# Altium footprint library Passives.PcbLib: 126 footprints (part 1 of 8)
Each footprint in its own frame and in the unit in brackets; x right, y up, seen from the top. Pads: shape width x height; smd on the part's side, far side on the other; paste and mask are expansions set on the pad; w line width, h text height; cw(c..) or ccw(c..) is an arc to the next point about the centre after c.
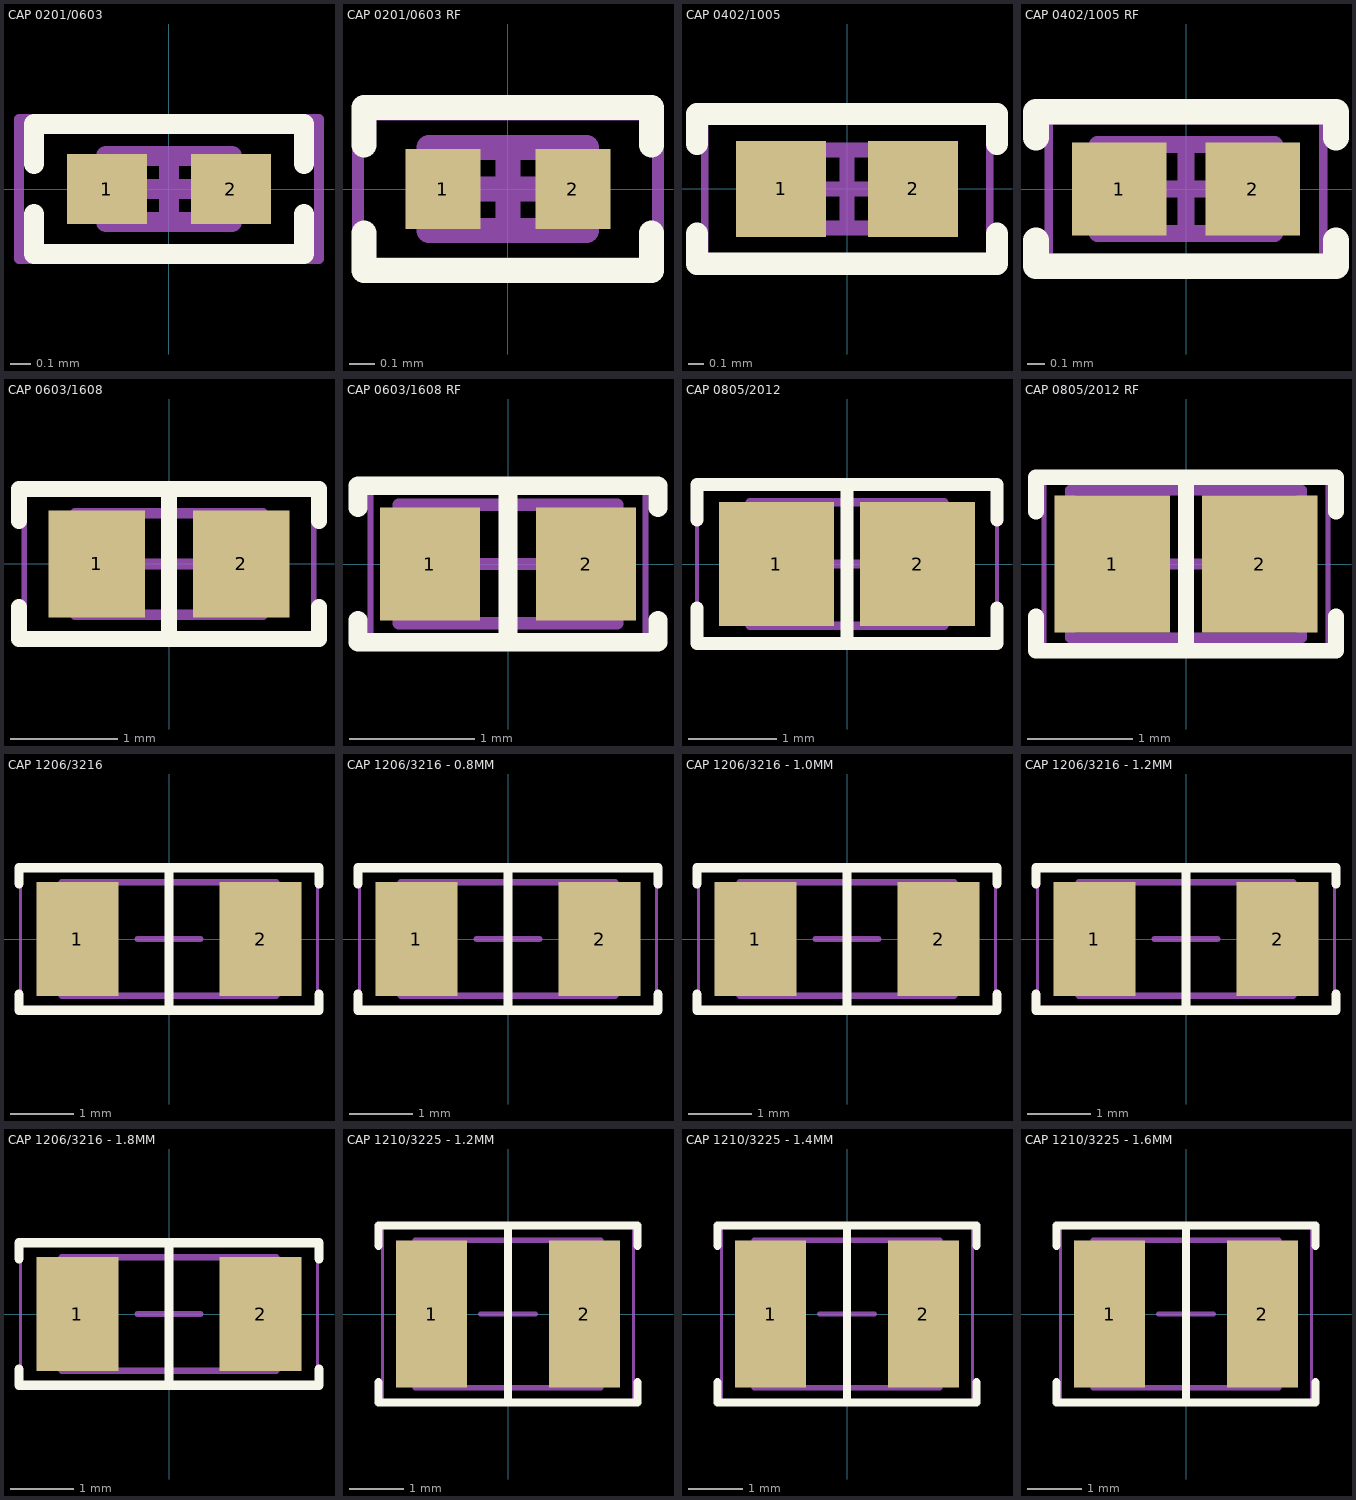
[diagram p0: the footprints below, top view; thin cyan lines are the x and y axes]

## CAP 0201/0603 [mm] "Chip Capacitor, 2-Leads, Body 0.60x0.30mm, IPC Medium Density"
height 0.33
pads (2):
  rect 0.4x0.35 smd: 1(-0.31,0) 2(0.31,0)
Top Overlay:
  lines w0.1: -0.675,-0.125 -0.675,-0.325 0.675,-0.325 0.675,-0.125 ; -0.675,0.125 -0.675,0.325 0.675,0.325 0.675,0.125
Top Component Center:
  lines w0.1: -0.165,0 0.165,0 ; 0,-0.165 0,0.165
Top Component Outline:
  lines w0.1: -0.315,-0.165 -0.315,0.165 0.315,0.165 0.315,-0.165 -0.315,-0.165
Top Courtyard:
  lines w0.05: -0.75,-0.35 0.75,-0.35 0.75,0.35 -0.75,0.35 -0.75,-0.35
3D body "CAP 0201.STEP": height 0.3, standoff 0, extent -0.3,-0.15 0.3,0.15

## CAP 0201/0603 RF [mm] "Chip Capacitor, 2-Leads, Body 0.60x0.30mm, IPC High Density"
height 0.33
pads (2):
  rect 0.3x0.32 smd: 1(-0.26,0) 2(0.26,0)
Top Overlay:
  lines w0.1: -0.575,-0.175 -0.575,-0.325 0.575,-0.325 0.575,-0.175 ; -0.575,0.175 -0.575,0.325 0.575,0.325 0.575,0.175
Top Component Center:
  lines w0.1: -0.165,0 0.165,0 ; 0,-0.165 0,0.165
Top Component Outline:
  lines w0.1: -0.315,-0.165 -0.315,0.165 0.315,0.165 0.315,-0.165 -0.315,-0.165
Top Courtyard:
  lines w0.05: -0.6,-0.3 -0.6,0.3 0.6,0.3 0.6,-0.3 -0.6,-0.3
3D body "CAP 0201.STEP": height 0.3, standoff 0, extent -0.3,-0.15 0.3,0.15

## CAP 0402/1005 [mm] "Chip Capacitor, 2-Leads, Body 1.02x0.51mm, IPC Medium Density"
height 0.52
pads (2):
  rect 0.6x0.64 smd: 1(-0.44,0) 2(0.44,0)
Top Overlay:
  lines w0.15: -1,-0.3 -1,-0.5 1,-0.5 1,-0.3 ; -1,0.3 -1,0.5 1,0.5 1,0.3
Top Component Center:
  lines w0.1: -0.26,0 0.26,0 ; 0,-0.26 0,0.26
Top Component Outline:
  lines w0.1: -0.515,-0.26 0.515,-0.26 0.515,0.26 -0.515,0.26 -0.515,-0.26
Top Courtyard:
  lines w0.05: -0.95,-0.5 0.95,-0.5 0.95,0.5 -0.95,0.5 -0.95,-0.5
3D body "0402 cap.STEP": height 0.52, standoff 0, extent -0.5,-0.262 0.5,0.262

## CAP 0402/1005 RF [mm] "Chip Capacitor, 2-Leads, Body 1.02x0.51mm, IPC High Density"
height 0.52
pads (2):
  rect 0.55x0.54 smd: 1(-0.39,0) 2(0.39,0)
Top Overlay:
  lines w0.15: -0.875,-0.3 -0.875,-0.45 0.875,-0.45 0.875,-0.3 ; -0.875,0.3 -0.875,0.45 0.875,0.45 0.875,0.3
Top Component Center:
  lines w0.1: -0.26,0 0.26,0 ; 0,-0.26 0,0.26
Top Component Outline:
  lines w0.1: -0.515,-0.26 -0.515,0.26 0.515,0.26 0.515,-0.26 -0.515,-0.26
Top Courtyard:
  lines w0.05: -0.8,-0.4 -0.8,0.4 0.8,0.4 0.8,-0.4 -0.8,-0.4
3D body "0402 cap.STEP": height 0.52, standoff 0, extent -0.5,-0.262 0.5,0.262

## CAP 0603/1608 [mm] "Chip Capacitor, 2-Leads, Body 1.60x0.80mm, IPC Medium Density"
height 0.89
pads (2):
  rect 0.9x1 smd: 1(-0.675,0) 2(0.675,0)
Top Overlay:
  lines w0.15: -1.4,-0.4 -1.4,-0.7 1.4,-0.7 1.4,-0.4 ; -1.4,0.4 -1.4,0.7 1.4,0.7 1.4,0.4 ; 0,-0.7 0,0.7
Top Component Center:
  lines w0.1: -0.475,0 0.475,0 ; 0,-0.475 0,0.475
Top Component Outline:
  lines w0.1: -0.875,-0.475 0.875,-0.475 0.875,0.475 -0.875,0.475 -0.875,-0.475
Top Courtyard:
  lines w0.05: -1.35,-0.75 1.35,-0.75 1.35,0.75 -1.35,0.75 -1.35,-0.75
3D body "0603 cap.STEP": height 0.82, standoff 0, extent -0.8,-0.412 0.8,0.412

## CAP 0603/1608 RF [mm] "Chip Capacitor, 2-Leads, Body 1.60x0.80mm, IPC High Density"
height 0.89
pads (2):
  rect 0.8x0.9 smd: 1(-0.625,0) 2(0.625,0)
Top Overlay:
  lines w0.15: -1.2,-0.45 -1.2,-0.625 1.2,-0.625 1.2,-0.45 ; -1.2,0.45 -1.2,0.625 1.2,0.625 1.2,0.45 ; 0,-0.625 0,0.625
Top Component Center:
  lines w0.1: -0.475,0 0.475,0 ; 0,-0.475 0,0.475
Top Component Outline:
  lines w0.1: -0.875,-0.475 0.875,-0.475 0.875,0.475 -0.875,0.475 -0.875,-0.475
Top Courtyard:
  lines w0.05: -1.1,-0.6 1.1,-0.6 1.1,0.6 -1.1,0.6 -1.1,-0.6
3D body "0603 cap.STEP": height 0.82, standoff 0, extent -0.8,-0.412 0.8,0.412

## CAP 0805/2012 [mm] "Chip Capacitor, 2-Leads, Body 2.00x1.20mm, IPC Medium Density"
height 1.15
pads (2):
  rect 1.3x1.4 smd: 1(-0.8,0) 2(0.8,0)
Top Overlay:
  lines w0.15: -1.7,-0.5 -1.7,-0.9 1.7,-0.9 1.7,-0.5 ; -1.7,0.5 -1.7,0.9 1.7,0.9 1.7,0.5 ; 0,-0.9 0,0.9
Top Component Center:
  lines w0.1: -0.5,0 0.5,0 ; 0,-0.5 0,0.5
Top Component Outline:
  lines w0.1: -1.1,-0.7 1.1,-0.7 1.1,0.7 -1.1,0.7 -1.1,-0.7
Top Courtyard:
  lines w0.05: -1.7,-0.95 1.7,-0.95 1.7,0.95 -1.7,0.95 -1.7,-0.95
3D body "0805 cap.STEP": height 1.26, standoff -0.02, extent -1,-0.637 1,0.637

## CAP 0805/2012 RF [mm] "Chip Capacitor, 2-Leads, Body 2.00x1.20mm, IPC High Density"
height 1.15
pads (2):
  rect 1.1x1.3 smd: 1(-0.7,0) 2(0.7,0)
Top Overlay:
  lines w0.15: -1.425,-0.5 -1.425,-0.825 1.425,-0.825 1.425,-0.5 ; -1.425,0.5 -1.425,0.825 1.425,0.825 1.425,0.5 ; -0.025,0.825 0,0.825 0,-0.825
Top Component Outline:
  lines w0.1: -0.5,0 0.5,0 ; 0,-0.5 0,0.5 ; -1.1,-0.7 -1.1,0.7 1.1,0.7 1.1,-0.7 -1.1,-0.7
Top Courtyard:
  lines w0.05: -1.35,-0.8 -1.35,0.8 1.35,0.8 1.35,-0.8 -1.35,-0.8
3D body "0805 cap.STEP": height 1.26, standoff -0.02, extent -1,-0.637 1,0.637

## CAP 1206/3216 [mm] "Chip Capacitor, 2-Leads, Body 3.25x1.60mm, IPC Medium Density"
height 1.6
pads (2):
  rect 1.3x1.8 smd: 1(-1.45,0) 2(1.45,0)
Top Overlay:
  lines w0.15: -2.375,-0.875 -2.375,-1.125 2.375,-1.125 2.375,-0.875 ; -2.375,0.875 -2.375,1.125 2.375,1.125 2.375,0.875 ; 0,-1.125 0,1.125
Top Component Center:
  lines w0.1: -0.5,0 0.5,0 ; 0,-0.5 0,0.5
Top Component Outline:
  lines w0.1: -1.7,-0.9 -1.7,0.9 1.7,0.9 1.7,-0.9 -1.7,-0.9
Top Courtyard:
  lines w0.05: -2.35,-1.15 -2.35,1.15 2.35,1.15 2.35,-1.15 -2.35,-1.15
3D body "1206 cap.STEP": height 1.62, standoff 0, extent -1.6,-0.812 1.6,0.812

## CAP 1206/3216 - 0.8MM [mm] "Chip Capacitor, 2-Leads, Body 3.25x1.60mm, IPC Medium Density"
height 0.8
pads (2):
  rect 1.3x1.8 smd: 1(-1.45,0) 2(1.45,0)
Top Overlay:
  lines w0.15: -2.375,-0.875 -2.375,-1.125 2.375,-1.125 2.375,-0.875 ; -2.375,0.875 -2.375,1.125 2.375,1.125 2.375,0.875 ; 0,-1.125 0,1.125
Top Component Outline:
  lines w0.1: -1.7,-0.9 -1.7,0.9 1.7,0.9 1.7,-0.9 -1.7,-0.9
Top Courtyard:
  lines w0.05: -2.35,-1.15 -2.35,1.15 2.35,1.15 2.35,-1.15 -2.35,-1.15
  lines w0.1: -0.5,0 0.5,0 ; 0,-0.5 0,0.5
3D body "CAP 1206-0.8mm.STEP": height 0.8, standoff 0, extent -1.6,-0.8 1.6,0.8

## CAP 1206/3216 - 1.0MM [mm] "Chip Capacitor, 2-Leads, Body 3.25x1.60mm, IPC Medium Density"
height 1
pads (2):
  rect 1.3x1.8 smd: 1(-1.45,0) 2(1.45,0)
Top Overlay:
  lines w0.15: -2.375,-0.875 -2.375,-1.125 2.375,-1.125 2.375,-0.875 ; -2.375,0.875 -2.375,1.125 2.375,1.125 2.375,0.875 ; 0,-1.125 0,1.125
Top Component Outline:
  lines w0.1: -1.7,-0.9 -1.7,0.9 1.7,0.9 1.7,-0.9 -1.7,-0.9
Top Courtyard:
  lines w0.05: -2.35,-1.15 -2.35,1.15 2.35,1.15 2.35,-1.15 -2.35,-1.15
  lines w0.1: -0.5,0 0.5,0 ; 0,-0.5 0,0.5
3D body "CAP 1206-1mm.STEP": height 1, standoff 0, extent -1.6,-0.8 1.6,0.8

## CAP 1206/3216 - 1.2MM [mm] "Chip Capacitor, 2-Leads, Body 3.25x1.60mm, IPC Medium Density"
height 1.2
pads (2):
  rect 1.3x1.8 smd: 1(-1.45,0) 2(1.45,0)
Top Overlay:
  lines w0.15: -2.375,-0.875 -2.375,-1.125 2.375,-1.125 2.375,-0.875 ; -2.375,0.875 -2.375,1.125 2.375,1.125 2.375,0.875 ; 0,-1.125 0,1.125
Top Component Outline:
  lines w0.1: -1.7,-0.9 -1.7,0.9 1.7,0.9 1.7,-0.9 -1.7,-0.9
Top Courtyard:
  lines w0.05: -2.35,-1.15 -2.35,1.15 2.35,1.15 2.35,-1.15 -2.35,-1.15
  lines w0.1: -0.5,0 0.5,0 ; 0,-0.5 0,0.5
3D body "CAP 1206-1.2mm.STEP": height 1.2, standoff 0, extent -1.6,-0.8 1.6,0.8

## CAP 1206/3216 - 1.8MM [mm] "Chip Capacitor, 2-Leads, Body 3.25x1.60mm, IPC Medium Density"
height 1.8
pads (2):
  rect 1.3x1.8 smd: 1(-1.45,0) 2(1.45,0)
Top Overlay:
  lines w0.15: -2.375,-0.875 -2.375,-1.125 2.375,-1.125 2.375,-0.875 ; -2.375,0.875 -2.375,1.125 2.375,1.125 2.375,0.875 ; 0,-1.125 0,1.125
Top Component Outline:
  lines w0.1: -1.7,-0.9 -1.7,0.9 1.7,0.9 1.7,-0.9 -1.7,-0.9
Top Courtyard:
  lines w0.05: -2.35,-1.15 -2.35,1.15 2.35,1.15 2.35,-1.15 -2.35,-1.15
  lines w0.1: -0.5,0 0.5,0 ; 0,-0.5 0,0.5
3D body "CAP 1206-1.8mm.STEP": height 1.8, standoff 0, extent -1.6,-0.8 1.6,0.8

## CAP 1210/3225 - 1.2MM [mm] "Chip Capacitor, 2-Leads, Body 3.20x2.50mm, IPC Medium Density"
height 1.2
pads (2):
  rect 1.3x2.7 smd: 1(-1.4,0) 2(1.4,0)
Top Overlay:
  lines w0.15: -2.375,-1.25 -2.375,-1.625 2.375,-1.625 2.375,-1.25 ; -2.375,1.25 -2.375,1.625 2.375,1.625 2.375,1.25 ; 0,-1.625 0,1.625
Top Component Outline:
  lines w0.1: -1.7,-1.35 1.7,-1.35 1.7,1.35 -1.7,1.35 -1.7,-1.35
Top Courtyard:
  lines w0.05: -2.3,-1.6 2.3,-1.6 2.3,1.6 -2.3,1.6 -2.3,-1.6
  lines w0.1: -0.5,0 0.5,0 ; 0,-0.5 0,0.5
3D body "CAP 1210-1.2mm.STEP": height 1.2, standoff 0, extent -1.6,-1.25 1.6,1.25

## CAP 1210/3225 - 1.4MM [mm] "Chip Capacitor, 2-Leads, Body 3.20x2.50mm, IPC Medium Density"
height 1.4
pads (2):
  rect 1.3x2.7 smd: 1(-1.4,0) 2(1.4,0)
Top Overlay:
  lines w0.15: -2.375,-1.25 -2.375,-1.625 2.375,-1.625 2.375,-1.25 ; -2.375,1.25 -2.375,1.625 2.375,1.625 2.375,1.25 ; 0,-1.625 0,1.625
Top Component Outline:
  lines w0.1: -1.7,-1.35 1.7,-1.35 1.7,1.35 -1.7,1.35 -1.7,-1.35
Top Courtyard:
  lines w0.05: -2.3,-1.6 2.3,-1.6 2.3,1.6 -2.3,1.6 -2.3,-1.6
  lines w0.1: -0.5,0 0.5,0 ; 0,-0.5 0,0.5
3D body "CAP 1210-1.4mm.STEP": height 1.4, standoff 0, extent -1.6,-1.25 1.6,1.25

## CAP 1210/3225 - 1.6MM [mm] "Chip Capacitor, 2-Leads, Body 3.20x2.50mm, IPC Medium Density"
height 1.6
pads (2):
  rect 1.3x2.7 smd: 1(-1.4,0) 2(1.4,0)
Top Overlay:
  lines w0.15: -2.375,-1.25 -2.375,-1.625 2.375,-1.625 2.375,-1.25 ; -2.375,1.25 -2.375,1.625 2.375,1.625 2.375,1.25 ; 0,-1.625 0,1.625
Top Component Outline:
  lines w0.1: -1.7,-1.35 -1.7,1.35 1.7,1.35 1.7,-1.35 -1.7,-1.35
Top Courtyard:
  lines w0.05: -2.3,-1.6 -2.3,1.6 2.3,1.6 2.3,-1.6 -2.3,-1.6
  lines w0.1: -0.5,0 0.5,0 ; 0,-0.5 0,0.5
3D body "CAP 1210-1.6mm.STEP": height 1.6, standoff 0, extent -1.6,-1.25 1.6,1.25